# EAGLE library part HEF4794B (library FHD-Actives)
8-stage Shift-and-store Register. Led Driver (40mA sink)
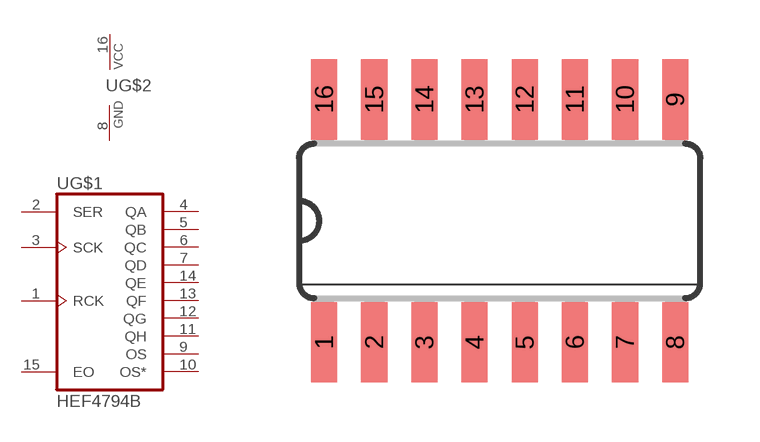
[diagram p4: symbol with the pads of SO16; footprint SO16]

Designator prefix -; gates G$1=HEF4794 G$2=PWRN

## HEF4794B  [SO16]
1  G$1:RCK  in
2  G$1:SER  in
3  G$1:SCK  in
4  G$1:QA  hiz
5  G$1:QB  hiz
6  G$1:QC  hiz
7  G$1:QD  hiz
8  G$2:GND  pwr
9  G$1:OS  hiz
10  G$1:OS*  hiz
11  G$1:QH  hiz
12  G$1:QG  hiz
13  G$1:QF  hiz
14  G$1:QE  hiz
15  G$1:EO  in
16  G$2:VCC  pwr

## Footprint SO16 (pad centres in mm)
Small Outline package 150 mil
smd 0.66 x 2.032: 1 -4.445,-3.073; 2 -3.175,-3.073; 3 -1.905,-3.073; 4 -0.635,-3.073; 5 0.635,-3.073; 6 1.905,-3.073; 7 3.175,-3.073; 8 4.445,-3.073; 9 4.445,3.073; 10 3.175,3.073; 11 1.905,3.073; 12 0.635,3.073; 13 -0.635,3.073; 14 -1.905,3.073; 15 -3.175,3.073; 16 -4.445,3.073